# Altium footprint library NFM18C.PcbLib: 1 footprints
Each footprint in its own frame and in the unit in brackets; x right, y up, seen from the top. Pads: shape width x height; smd on the part's side, far side on the other; paste and mask are expansions set on the pad; w line width, h text height; cw(c..) or ccw(c..) is an arc to the next point about the centre after c.
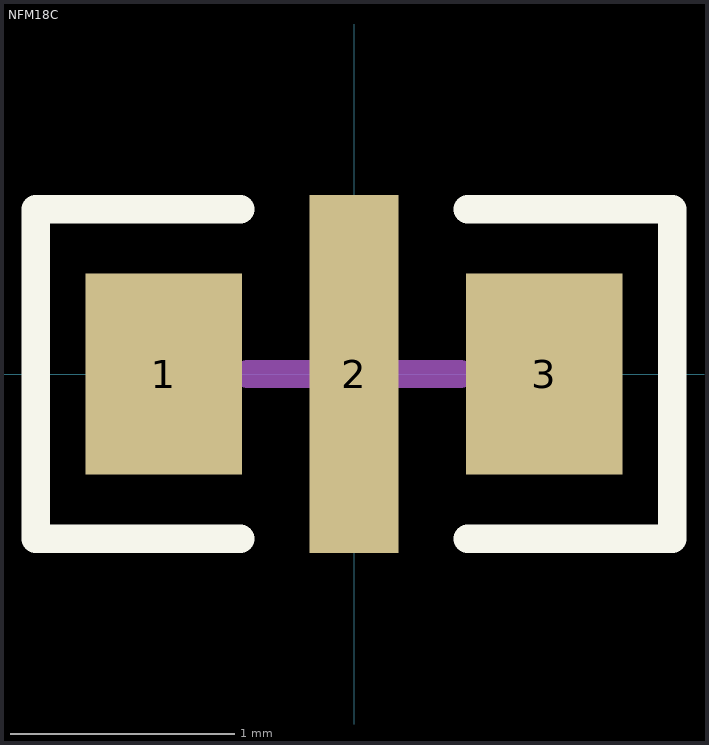
[diagram p0: the footprint, top view; thin cyan lines are the x and y axes]

## NFM18C [mm]
height 0.55
pads (3):
  rect 0.7x0.9 smd: 1(-0.85,0) 3(0.85,0)
  rect 0.4x1.6 smd: 2(0,0)
Top Overlay:
  lines w0.127: -0.508,-0.737 -1.422,-0.737 -1.422,0.737 -0.508,0.737 ; 0.508,-0.737 1.422,-0.737 1.422,0.737 0.508,0.737
Mechanical 15:
  lines w0.127: -0.475,0 0.475,0 ; 0,-0.475 0,0.475
3D body: height 0.44, standoff -0.03, extent -0.8,-0.406 0.8,0.394